# Altium schematic symbol library Powers.SchLib: 22 symbols
Pins are listed as number, name and electrical type; pins without a type are passive.

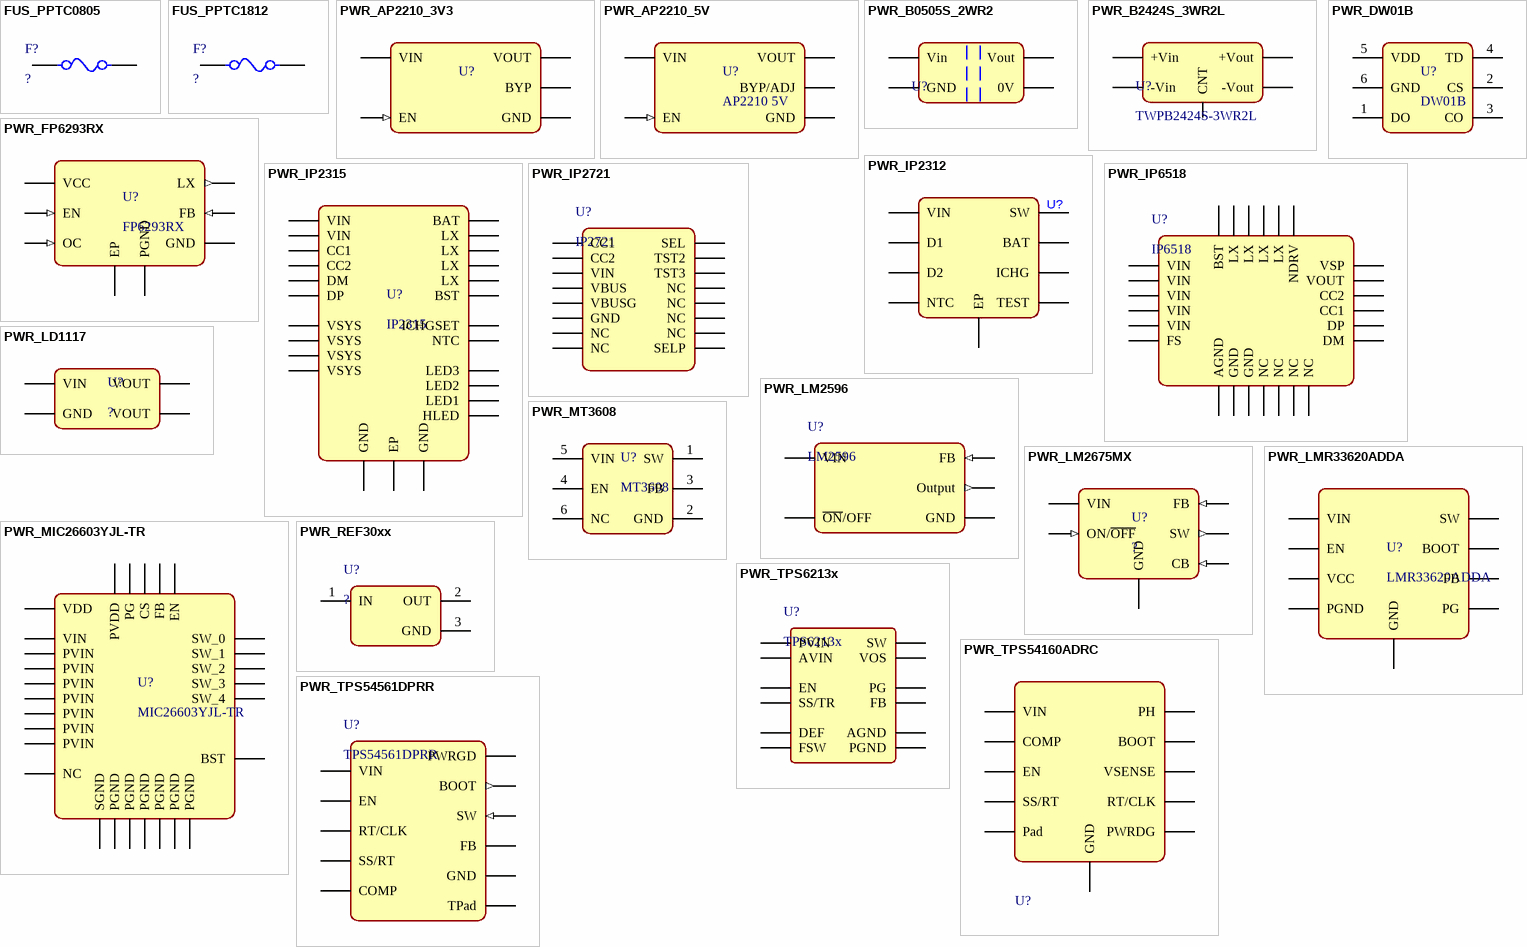
[diagram p0: symbols FUS_PPTC0805 to PWR_TPS54561DPRR]

## FUS_PPTC0805
designator F?, comment ?
0805 Resettable Fuses; JLCPCB Part: ?; LCSC Part: ?; Mfr. Part: ?; Hold Current: ?; Trip Current: ?
footprint FUS_PPTC0805
pins: 1, 2

## FUS_PPTC1812
designator F?, comment ?
1812 Resettable Fuses; JLCPCB Part: ?; LCSC Part: ?; Mfr. Part: ?; Hold Current: ?; Trip Current: ?
footprint FUS_PPTC1812
pins: 1, 2

## PWR_AP2210_3V3
designator U?, comment AP2210 3.3V  (value not drawn)
3V3, 300mA, ultra-low dropout voltage, very low noise; JLCPCB Part: ?; LCSC Part: ?; Mrf. Part: ?
footprint PWR_AP2210
pins: 1 VIN (power), 2 GND (power), 3 EN (in), 4 BYP (power), 5 VOUT (power)

## PWR_AP2210_5V
designator U?, comment AP2210 5V
5V, 300mA, very low noise, ultra-low dropout voltage; JLCPCB Part: ?; LCSC Part: ?; Mrf. Part: ?
footprint PWR_AP2210
pins: 1 VIN (power), 2 GND (power), 3 EN (in), 4 BYP/ADJ (power), 5 VOUT (power)

## PWR_B0505S_2WR2
designator U?, comment B0505S_2WR2  (value not drawn)
5V 2W Ioslated DC-DC SIP-4 Power Modules; JLCPCB Part: ?; LCSC Part: ?; Mfr. Part: B0505S_2WR2
footprint PWR_BxxxxS_2WR2
pins: 1 Vin, 2 GND, 4 0V, 6 Vout

## PWR_B2424S_3WR2L
designator U?, comment TWPB2424S-3WR2L
24V 3W isolated DC-DC SIP-8 Power Modules; Mfr. Part: TWRB2424S-3WR2L; JLCPCB Part: ?; LCSC Part: ?
footprint PWR_Bxxxx_3WR2L
pins: 1 -Vin, 2 +Vin, 3 CNT, 6 +Vout, 7 -Vout

## PWR_DW01B
designator U?, comment DW01B
BMS; JLCPCB Part: ?; LCSC Part: ?; Mrf . Part: ?
footprint PWR_DW01B
pins: 1 DO, 2 CS, 3 CO, 4 TD, 5 VDD, 6 GND

## PWR_FP6293RX
designator U?, comment FP6293RX
Boost type 13V 3.5A 2.6V~5.5V SOP-8-EP DC-DC Converters ROHS; JLCPCB Part: *; LCSC Part: *; Mrf . Part: *
footprint PWR_FP6293XR
pins: 1 PGND (power), 2 OC (in), 3 VCC (power), 4 EN (in), 5 GND (power), 6 FB (in), 8 LX (out), 9 EP (power)

## PWR_IP2312
designator U?, comment IP2312  (value not drawn)
5V input,3A, 3.7V/2A conversion,750KHz switching frequency,packaged in ESOP8; JLCPCB Part: ?; LCSC Part: ?; Mrf . Part: ?
footprint PWR_IP2312
pins: 1 D1, 2 TEST, 3 D2, 4 NTC, 5 BAT, 6 ICHG, 7 SW, 8 VIN, 9 EP

## PWR_IP2315
designator U?, comment IP2315
5v~12V input,4.8A,9V/2A,500kHz switching frequency,packaged in QFN 32; Mrf.Part: ?; LCSC Part: ?; JLCPCB  Part: ?
footprint PWR_IP2315
pins: 2 CC1, 3 CC2, 6 VSYS, 7 VSYS, 8 LED1, 9 LED2, 10 LED3, 11 LX, 12 LX, 13 LX, 14 LX, 15 BST, 16 HLED, 17 GND, 18 VSYS, 19 VSYS, 20 VIN, 21 VIN, 22 BAT, 23 DM, 24 DP, 26 NTC, 27 ICHGSET, 31 GND, 33 EP

## PWR_IP2721
designator U?, comment IP2721
Working voltage: 3V~25V, Switching Frequency: 340kHz, Output Current: 2A , TSSOP; Mrf. Part: ?; LCSC Part: ?; JLCPCB Part: ?
footprint PWR_IP2721
pins: 1 VBUSG, 2 VIN, 3 NC, 4 NC, 5 GND, 6 SELP, 7 TST2, 8 TST3, 9 NC, 10 NC, 11 SEL, 12 CC2, 13 CC1, 14 NC, 15 NC, 16 VBUS

## PWR_IP6518
designator U?, comment IP6518
VINenter10.5-32V, Output power: Maximum45W（3V@3.6A, / 5V@3.4A,9V@3A,12V@3A,15V@2.3A, / 20V@2.3A）; Mrf. Part: ?; LCSC Part: ?; JLCPCB Part: ?
footprint PWR_IP6518
pins: 1 NC, 2 VIN, 3 VIN, 4 GND, 5 NC, 6 FS, 7 DM, 8 DP, 9 CC1, 10 CC2, 11 NC, 12 NC, 13 VOUT, 14 VSP, 15 AGND, 16 VIN, 17 VIN, 18 VIN, 19 NDRV, 20 LX, 21 LX, 22 LX, 23 LX, 24 BST, 25 GND

## PWR_LD1117
designator U?, comment ?
Linear Voltage Regulators (LDO); Mrf. Part: ?; LCSC Part: ?; JLCPCB Part: ?; Value: ?
footprint PWR_LD1117_SOT223
pins: 1 GND, 2  VOUT, 3 VIN, 4 VOUT

## PWR_LM2596
designator U?, comment LM2596
SIMPLE SWITCHER® 4.5V to 40V, 3A Low Component Count Buck Regulator 5-TO-220; Mrf. Part: ?; LCSC Part: ?; JLCPCB: ?
footprint PWR_LM2596
pins: 1 VIN, 2 Output (out), 3,6 GND (power), 4 FB (in), 5 ~{ON}/OFF

## PWR_LM2675MX
designator U?, comment ?
Step-down type Fixed 1A 6.5V~40V SOIC-8 DC-DC Converters ROHS; Mrf. Part: ?; LCSC Part: LM2675MX; JLCPCB Part: ?; Value: ?
footprint PWR_LM2675MX
pins: 1 CB (in), 4 FB (in), 5 ON/~{OFF} (in), 6 GND, 7 VIN, 8 SW (out)

## PWR_LMR33620ADDA
designator U?, comment LMR33620ADDA
Step-down type Adjustable 2A 3.8V~36V 1V~24V SOIC-8-EP DC-DC; JLCPCB Part: ?; LCSC Part: ?; Mrf . Part: ?
footprint PWR_LMR33620ADDA
pins: 1 PGND, 2 VIN, 3 EN, 4 PG, 5 FB, 6 VCC, 7 BOOT, 8 SW, 9 GND (power)

## PWR_MIC26603YJL-TR
designator U?, comment MIC26603YJL-TR
DC/DC Buck Regulator 28V, 6A; Mrf. Part: ?; LCSC Part: ?; JLCPCB Part: ?
footprint PWR_MIC26603YJL
pins: 1 PVDD, 2 PGND, 3 NC, 4 SW_0, 5 PGND, 6 PGND, 7 PGND, 8 PGND, 9 SW_1, 10 SW_2, 11 SW_3, 12 SW_4, 13 PVIN, 14 PVIN, 15 PVIN, 16 PVIN, 17 PVIN, 18 PVIN, 19 PVIN, 20 BST, 21 PGND, 22 CS, 23 SGND, 24 FB, 25 PG, 26 EN, 27 VIN, 28 VDD

## PWR_MT3608
designator U?, comment MT3608
2V to 24V Input, 4A Switch Current Limit,High Efficiency 1.2MHz 2A Step Up Converter, SOT23-6 Package; Mrf. Part: ?; LCSC Part: ?; JLCPCB Part: ?
footprint PWR_MT3608
pins: 1 SW, 2 GND, 3 FB, 4 EN, 5 VIN, 6 NC

## PWR_REF30xx
designator U?, comment ?
±0.2%, 25mA Fixed SOT-23 Voltage References; ComponentLink1Description: Manufacturer URL; ComponentLink2URL: http://www.ti.com/general/docs/lit/getliterature.tsp?genericPartNumber=REF3030&fileType=pdf; ComponentLink1URL: http://www.ti.com/; ComponentLink2Description: Datasheet; ComponentLink3Description: Package Specification; ComponentLink3URL: http://www.ti.com/litv/pdf/mpds108a; JLCPCB Part: ?; LCSC Part: ?; Mrf. Part: *; Name: ?; Voltage: ?
footprint PWR_REF30xx (SOT23, 3-Leads, Body 3.04x1.4mm, Pitch 0.95mm, IPC Low Density)
pins: 1 IN (power), 2 OUT (power), 3 GND (power)

## PWR_TPS6213x
designator U?, comment TPS6213x
Buck DC-DC Converters Adjustable 900mV~6V 3A 3V~17V; Mrf.Part: ?; LCSC Part: ?; JLCPCB Part: ?
footprint PWR_TPS6213x
pins: 1,2,3 SW, 4 PG, 5 FB, 6 AGND, 7 FSW, 8 DEF, 9 SS/TR, 10 AVIN, 11,12 PVIN, 13 EN, 14 VOS, 15,16 PGND

## PWR_TPS54160ADRC
designator U?, comment TPS54160ADRC  (value not drawn)
Step-down type Adjustable 800mV~58V Input 3.5V~60V 1.5A VSON-10-EP(3x3) DC-DC Converters ROHS; JLCPCB Part: ?; LCSC Part: ?; Mrf . Part: ?
footprint PWR_TPS54160ADRC
pins: 1 BOOT, 2 VIN, 3 EN, 4 SS/RT, 5 RT/CLK, 6 PWRDG, 7 VSENSE, 8 COMP, 9 GND (power), 10 PH, 11 Pad (power)

## PWR_TPS54561DPRR
designator U?, comment TPS54561DPRR
4.5V to 60V Input 5A Step-Down DC-DC Converter With Soft-Start and Eco-mode 10-WSON -40 to 125; Mrf. Part: ?; LCSC Part: ?; JLCPCB part: ?
footprint PWR_TPS54561DPRR
pins: 1 BOOT (out), 2 VIN (power), 3 EN (power), 4 SS/RT (power), 5 RT/CLK (power), 6 FB (power), 7 COMP (power), 8 GND (power), 9 SW (in), 10 PWRGD, 11 TPad